# EAGLE library part HPP845E031R4 (library Sensor)
SENSOR HUMID/TEMP 3V I2C 2% SMD Manufacturer's datasheet <https://www.te.com/commerce/DocumentDelivery/DDEController?Action=srchrtrv&DocNm=HPC199_6&DocType=Data+Sheet&DocLang=English>
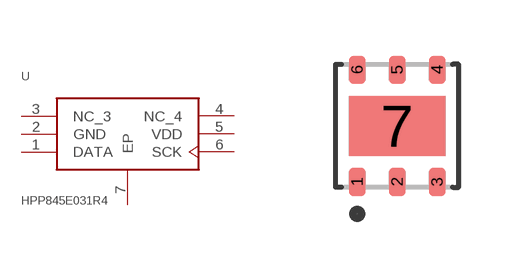
[diagram p8: symbol with the pads of 6-VDFN; footprint 6-VDFN]

Designator prefix U

## HPP845E031R4 (CREATED_BY: PCBLayout.com; DIGIKEY_PART_NUMBER: 223-1144-1-ND; MANUFACTURER: TE Connectivity Measurement Specialties; MPN: HPP845E031R4; PACKAGE: 6-VDFN)  [6-VDFN]
1  DATA
2  GND  pwr
3  NC_3  pas
4  NC_4  pas
5  VDD  pwr
6  SCK
7  EP  pwr

## Footprint 6-VDFN (pad centres in mm)
Small Outline No-Lead (SON with Tab), 1.00 mm pitch; 6 pin, 3.00 mm L X 3.00 mm W X 1.00 mm H body PCB Libraries Packages
smd 0.42 x 0.71: 1 -1,-1.405; 2 0,-1.405; 3 1,-1.405; 4 1,1.405; 5 0,1.405; 6 -1,1.405
smd 2.4 x 1.5: 7 0,0